# Altium schematic symbol library sym-0008.SchLib: 1 symbol
Pins are listed as number, name and electrical type; pins without a type are passive.

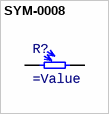
[diagram p0: symbol SYM-0008]

## SYM-0008
designator R?
Photoresistor
pins: 1, 2
1 alternate drawing of the same symbol